# EAGLE library part M-2X16- (library con-headers-jp)
MALE HEADER
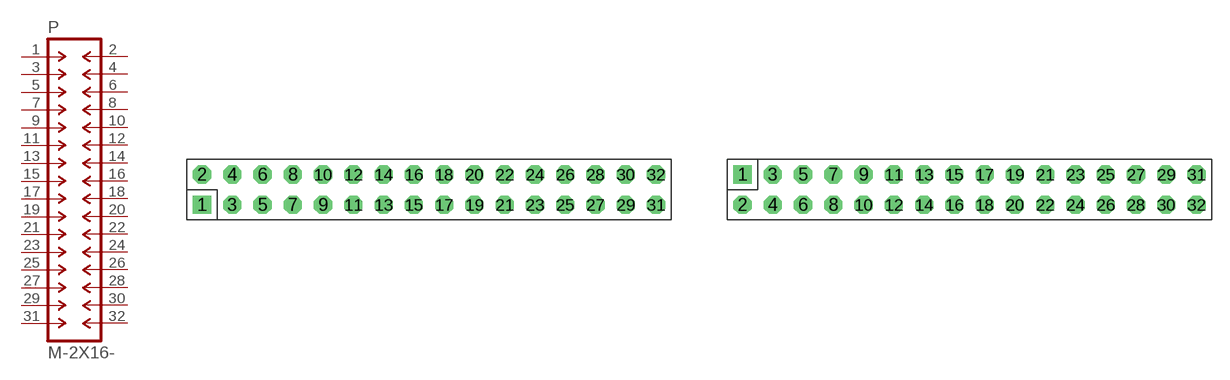
[diagram p70: symbol with the pads of DIL-100-2X16; footprints DIL-100-2X16, DIL-100-2X16_M]

Designator prefix P

## M-2X16-DIL-100  [DIL-100-2X16]
1  1  pas
2  2  pas
3  3  pas
4  4  pas
5  5  pas
6  6  pas
7  7  pas
8  8  pas
9  9  pas
10  10  pas
11  11  pas
12  12  pas
13  13  pas
14  14  pas
15  15  pas
16  16  pas
17  17  pas
18  18  pas
19  19  pas
20  20  pas
21  21  pas
22  22  pas
23  23  pas
24  24  pas
25  25  pas
26  26  pas
27  27  pas
28  28  pas
29  29  pas
30  30  pas
31  31  pas
32  32  pas

## M-2X16-DIL-100_M  [DIL-100-2X16_M]
Pads as for DIL-100-2X16

## M-2X16-DIL-2MM  [DIL-2MM-2X16]
Pads as for DIL-100-2X16

## M-2X16-DIL-2MM_M  [DIL-2MM-2X16_M]
Pads as for DIL-100-2X16

## Footprint DIL-100-2X16 (pad centres in mm)
PIN HEADER - 0.1"
drill 1.016 square: 1 -19.05,-1.27
drill 1.016 octagon: 2 -19.05,1.27; 3 -16.51,-1.27; 4 -16.51,1.27; 5 -13.97,-1.27; 6 -13.97,1.27; 7 -11.43,-1.27; 8 -11.43,1.27; 9 -8.89,-1.27; 10 -8.89,1.27; 11 -6.35,-1.27; 12 -6.35,1.27; 13 -3.81,-1.27; 14 -3.81,1.27; 15 -1.27,-1.27; 16 -1.27,1.27; 17 1.27,-1.27; 18 1.27,1.27; 19 3.81,-1.27; 20 3.81,1.27; 21 6.35,-1.27; 22 6.35,1.27; 23 8.89,-1.27; 24 8.89,1.27; 25 11.43,-1.27; 26 11.43,1.27; 27 13.97,-1.27; 28 13.97,1.27; 29 16.51,-1.27; 30 16.51,1.27; 31 19.05,-1.27; 32 19.05,1.27

## Footprint DIL-100-2X16_M (pad centres in mm)
PIN HEADER - MIRRORED 0.1"
drill 1.016 square: 1 -19.05,1.27
drill 1.016 octagon: 2 -19.05,-1.27; 3 -16.51,1.27; 4 -16.51,-1.27; 5 -13.97,1.27; 6 -13.97,-1.27; 7 -11.43,1.27; 8 -11.43,-1.27; 9 -8.89,1.27; 10 -8.89,-1.27; 11 -6.35,1.27; 12 -6.35,-1.27; 13 -3.81,1.27; 14 -3.81,-1.27; 15 -1.27,1.27; 16 -1.27,-1.27; 17 1.27,1.27; 18 1.27,-1.27; 19 3.81,1.27; 20 3.81,-1.27; 21 6.35,1.27; 22 6.35,-1.27; 23 8.89,1.27; 24 8.89,-1.27; 25 11.43,1.27; 26 11.43,-1.27; 27 13.97,1.27; 28 13.97,-1.27; 29 16.51,1.27; 30 16.51,-1.27; 31 19.05,1.27; 32 19.05,-1.27

## Footprint DIL-2MM-2X16 (pad centres in mm)
PIN HEADER - 2MM
drill 0.711 square: 1 -15,-1
drill 0.711: 2 -15,1; 3 -13,-1; 4 -13,1; 5 -11,-1; 6 -11,1; 7 -9,-1; 8 -9,1; 9 -7,-1; 10 -7,1; 11 -5,-1; 12 -5,1; 13 -3,-1; 14 -3,1; 15 -1,-1; 16 -1,1; 17 1,-1; 18 1,1; 19 3,-1; 20 3,1; 21 5,-1; 22 5,1; 23 7,-1; 24 7,1; 25 9,-1; 26 9,1; 27 11,-1; 28 11,1; 29 13,-1; 30 13,1; 31 15,-1; 32 15,1

## Footprint DIL-2MM-2X16_M (pad centres in mm)
PIN HEADER - MIRRORED 2MM
drill 0.711 square: 1 -15,1
drill 0.711: 2 -15,-1; 3 -13,1; 4 -13,-1; 5 -11,1; 6 -11,-1; 7 -9,1; 8 -9,-1; 9 -7,1; 10 -7,-1; 11 -5,1; 12 -5,-1; 13 -3,1; 14 -3,-1; 15 -1,1; 16 -1,-1; 17 1,1; 18 1,-1; 19 3,1; 20 3,-1; 21 5,1; 22 5,-1; 23 7,1; 24 7,-1; 25 9,1; 26 9,-1; 27 11,1; 28 11,-1; 29 13,1; 30 13,-1; 31 15,1; 32 15,-1